# EAGLE library part ATTINY48/88-MM/PU(QFN/DIP28) (library atmel_tiny24-44-84tiny48-88mega48-88-168-328)
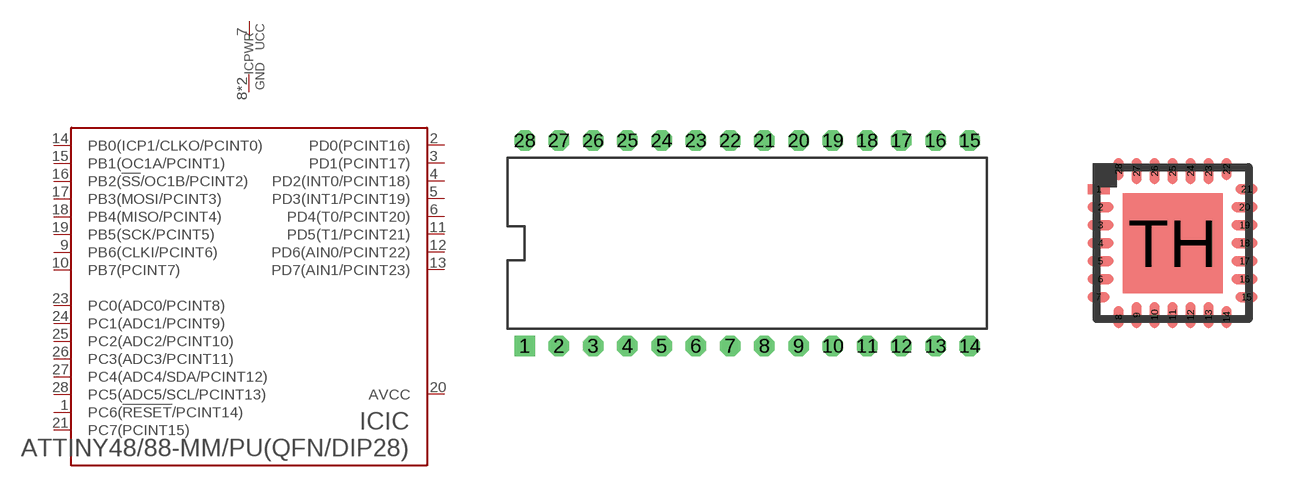
[diagram p6: symbol with the pads of DIL28; footprints DIL28, QFN28_4X4A0,45MM]

Designator prefix IC; gates IC=ATTINY48/88-MM/PU(DIP/QFN28) PWR=!UCC+GND

## ATTINY48/88-MM/PU(QFN/DIP28)PU  [DIL28]
1  IC:PC6(!RESET!/PCINT14)
2  IC:PD0(PCINT16)
3  IC:PD1(PCINT17)
4  IC:PD2(INT0/PCINT18)
5  IC:PD3(INT1/PCINT19)
6  IC:PD4(T0/PCINT20)
7  PWR:UCC  pwr
8  PWR:GND  pwr
9  IC:PB6(CLKI/PCINT6)
10  IC:PB7(PCINT7)
11  IC:PD5(T1/PCINT21)
12  IC:PD6(AIN0/PCINT22)
13  IC:PD7(AIN1/PCINT23)
14  IC:PB0(ICP1/CLKO/PCINT0)
15  IC:PB1(OC1A/PCINT1)
16  IC:PB2(!SS!/OC1B/PCINT2)
17  IC:PB3(MOSI/PCINT3)
18  IC:PB4(MISO/PCINT4)
19  IC:PB5(SCK/PCINT5)
20  IC:AVCC  pwr
21  IC:PC7(PCINT15)
22  PWR:GND  pwr
23  IC:PC0(ADC0/PCINT8)
24  IC:PC1(ADC1/PCINT9)
25  IC:PC2(ADC2/PCINT10)
26  IC:PC3(ADC3/PCINT11)
27  IC:PC4(ADC4/SDA/PCINT12)
28  IC:PC5(ADC5/SCL/PCINT13)

## ATTINY48/88-MM/PU(QFN/DIP28)MMU/MMH  [QFN28_4X4A0,45MM]
1  IC:PD3(INT1/PCINT19)
2  IC:PD4(T0/PCINT20)
3  PWR:UCC  pwr
4  PWR:GND  pwr
5  IC:PB6(CLKI/PCINT6)
6  IC:PB7(PCINT7)
7  IC:PD5(T1/PCINT21)
8  IC:PD6(AIN0/PCINT22)
9  IC:PD7(AIN1/PCINT23)
10  IC:PB0(ICP1/CLKO/PCINT0)
11  IC:PB1(OC1A/PCINT1)
12  IC:PB2(!SS!/OC1B/PCINT2)
13  IC:PB3(MOSI/PCINT3)
14  IC:PB4(MISO/PCINT4)
15  IC:PB5(SCK/PCINT5)
16  IC:AVCC  pwr
17  IC:PC7(PCINT15)
18  PWR:GND  pwr
19  IC:PC0(ADC0/PCINT8)
20  IC:PC1(ADC1/PCINT9)
21  IC:PC2(ADC2/PCINT10)
22  IC:PC3(ADC3/PCINT11)
23  IC:PC4(ADC4/SDA/PCINT12)
24  IC:PC5(ADC5/SCL/PCINT13)
25  IC:PC6(!RESET!/PCINT14)
26  IC:PD0(PCINT16)
27  IC:PD1(PCINT17)
28  IC:PD2(INT0/PCINT18)
TH  PWR:GND  pwr

## Footprint DIL28 (pad centres in mm)
drill 0.889 pad 1.524 square: 1 -16.51,-7.62
drill 0.889 pad 1.524 octagon: 2 -13.97,-7.62; 3 -11.43,-7.62; 4 -8.89,-7.62; 5 -6.35,-7.62; 6 -3.81,-7.62; 7 -1.27,-7.62; 8 1.27,-7.62; 9 3.81,-7.62; 10 6.35,-7.62; 11 8.89,-7.62; 12 11.43,-7.62; 13 13.97,-7.62; 14 16.51,-7.62; 15 16.51,7.62; 16 13.97,7.62; 17 11.43,7.62; 18 8.89,7.62; 19 6.35,7.62; 20 3.81,7.62; 21 1.27,7.62; 22 -1.27,7.62; 23 -3.81,7.62; 24 -6.35,7.62; 25 -8.89,7.62; 26 -11.43,7.62; 27 -13.97,7.62; 28 -16.51,7.62

## Footprint QFN28_4X4A0,45MM (pad centres in mm)
28M1, 28-pad, 4 x 4 x 1.0 mm Body, Lead Pitch 0.45 mm, 2.4 x 2.4 mm Exposed Pad Thermally Enhanced Plastic Very Thin Quad Flat No Lead Package (VQFN) Atmel
smd 0.55 x 0.25: 1 -1.85,1.35; 7 -1.85,-1.35; 15 1.85,-1.35; 21 1.85,1.35
smd 0.65 x 0.25: 2 -1.8,0.9; 3 -1.8,0.45; 4 -1.8,0; 5 -1.8,-0.45; 6 -1.8,-0.9; 16 1.8,-0.9; 17 1.8,-0.45; 18 1.8,0; 19 1.8,0.45; 20 1.8,0.9
smd 0.25 x 0.55: 8 -1.35,-1.85; 14 1.35,-1.85; 22 1.35,1.85; 28 -1.35,1.85
smd 0.25 x 0.65: 9 -0.9,-1.8; 10 -0.45,-1.8; 11 0,-1.8; 12 0.45,-1.8; 13 0.9,-1.8; 23 0.9,1.8; 24 0.45,1.8; 25 0,1.8; 26 -0.45,1.8; 27 -0.9,1.8
smd 2.5 x 2.5: TH 0,0